# Altium schematic symbol library Schlib1.SchLib: 21 symbols
Pins are listed as number, name and electrical type; pins without a type are passive.

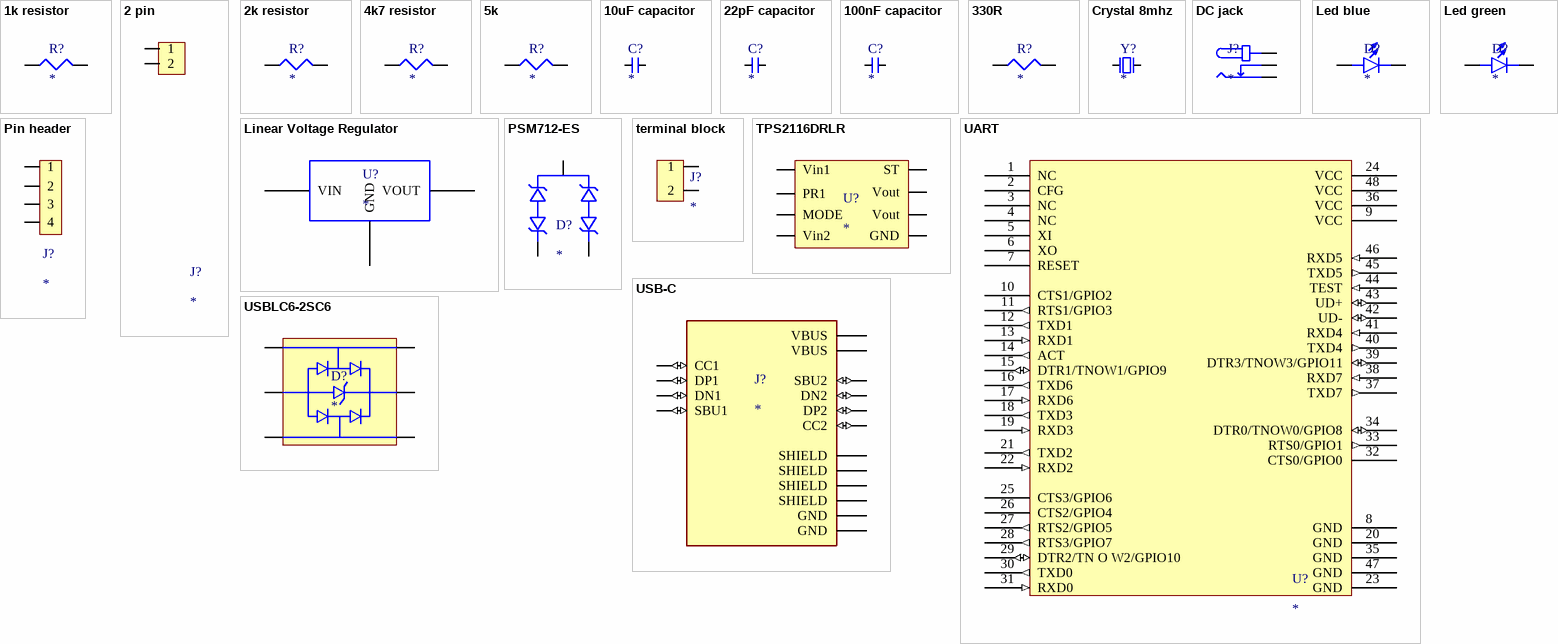
[diagram p0: symbols 1k resistor to USBLC6-2SC6]

## 1k resistor
designator R?
100mW Thick Film Resistors 75V ±100ppm/℃ ±1% 1kΩ 0603 Chip Resistor - Surface Mount ROHS; Manufacturer: UNI-ROYAL(Uniroyal Elec); Mfr. Part #: 0603WAF1001T5E; supplier: LCSC; LCSC Part #: C21190
footprint 0603 cap
pins: 1, 2

## 2 pin
designator J?
Straight Square Pins 2.5mm 6mm 2P -40℃~+105℃ 3mm 2.54mm Black Brass Plugin 1x2P Plugin,P=2.54mm Pin Headers ROHS; Manufacturer: XUNPU; Mfr. Part #: PH2.54-01-02PZD; supplier: LCSC; LCSC Part #: C7501580
footprint 2 pin header
pins: 1, 2

## 2k resistor
designator R?
100mW Thick Film Resistors 75V ±100ppm/℃ ±1% 2kΩ 0603 Chip Resistor - Surface Mount ROHS; Manufacturer: UNI-ROYAL(Uniroyal Elec); Mfr. Part #: 0603WAF2001T5E; supplier: LCSC; LCSC Part #: C22975
footprint 0603 cap
pins: 1, 2

## 4k7 resistor
designator R?
100mW Thick Film Resistors 75V ±100ppm/℃ ±5% 4.7kΩ 0603 Chip Resistor - Surface Mount ROHS; Manufacturer: UNI-ROYAL(Uniroyal Elec); Mfr. Part #: 0603WAJ0472T5E; supplier: LCSC; LCSC Part #: C25999
footprint 0603 cap
pins: 1, 2

## 5k
designator R?
100mW Thick Film Resistors 75V ±100ppm/℃ ±1% 330Ω 0603 Chip Resistor - Surface Mount ROHS; Manufacturer: UNI-ROYAL(Uniroyal Elec); Mfr. Part #: 0603WAF5101T5E; supplier: LCSC; LCSC Part #: C23186
footprint 0603 cap
pins: 1, 2

## 10uF capacitor
designator C?
6.3V 10uF ±10% 0603 Multilayer Ceramic Capacitors MLCC - SMD/SMT ROHS; Manufacturer: PSA(Prosperity Dielectrics); Mfr. Part #: FS18B106K6R3PBG; supplier: LCSC; LCSC Part #: C2836875
footprint 0603 cap
pins: 1, 2

## 22pF capacitor
designator C?
50V 22pF C0G ±5% 0603 Multilayer Ceramic Capacitors MLCC - SMD/SMT ROHS; Manufacturer: PSA(Prosperity Dielectrics); Mfr. Part #: FN18N220J500PSG; supplier: LCSC; LCSC Part #: C525244
footprint 0603 cap
pins: 1, 2

## 100nF capacitor
designator C?
50V 100nF X7R ±10% 0603 Multilayer Ceramic Capacitors MLCC - SMD/SMT ROHS; Manufacturer: PSA(Prosperity Dielectrics); Mfr. Part #: FN18X104K500PBG; supplier: LCSC; LCSC Part #: C235731
footprint 0603 cap
pins: 1, 2

## 330R
designator R?
100mW Thick Film Resistors 75V ±100ppm/℃ ±1% 330Ω 0603 Chip Resistor - Surface Mount ROHS; Manufacturer: UNI-ROYAL(Uniroyal Elec); Mfr. Part #: 0603WAF3300T5E; supplier: LCSC; LCSC Part #: C23138
footprint 0603 cap
pins: 1, 2

## Crystal 8mhz
designator Y?
8MHz 贴片晶振 20pF ±20ppm ±20ppm HC-49S-SMD Crystals ROHS; Manufacturer: KYX; Mfr. Part #: KBD080002020; supplier: LCSC; LCSC Part #: C2835983
footprint crystal
pins: 1, 2

## DC jack
designator J?
Panel Mounting DC Power Receptacle 260℃ Brass -20℃~+70℃ 2mm 6.2mm 2.5A 24V Plugin DC Power Connector ROHS; Manufacturer: XKB Connection; Mfr. Part #: DC-005-2.5A-2.0; Supplier: LCSC; LCSC Part #: C319099
footprint DC jack
pins: 1, 2, 3

## Led blue
designator D?
Blue 0603 Light Emitting Diodes (LED) ROHS; Manufacturer: Yongyu Photoelectric; Mfr. Part #: SZYY0805B; supplier: LCSC; LCSC Part #: C434433
footprint 0805led
pins: 1, 2

## Led green
designator D?
Emerald 0805 Light Emitting Diodes (LED) ROHS; Manufacturer: Yongyu Photoelectric; Mfr. Part #: SZYY0805G; supplier: LCSC; LCSC Part #: C434432
footprint 0805led
pins: 1, 2

## Linear Voltage Regulator
designator U?
SOT-223 Linear Voltage Regulators (LDO) ROHS; Manufacturer: IDCHIP; Manufacturer part number: 1117-5; Supplier: LCSC; Supplier part number: C5125089
footprint linear voltage regulato
pins: 1 GND, 2 VOUT, 3 VIN

## Pin header
designator J?
1x4P 4P XH 1 2.5mm 4 Phosphor bronze Plugin,P=2.5mm Wire To Board Connector ROHS; Manufacturer: BOOMELE; Mfr. Part #: XH-4A; Supplier: LCSC; LCSC Part #: C37815
footprint jst 4 pin
pins: 1, 2, 3, 4

## PSM712-ES
designator D?
17A 350W Bi-Directional SOT-23 Electrostatic and Surge Protection (TVS/ESD) ROHS; Manufacturer: ElecSuper; Mfr. Part #: PSM712-ES; Supplier: LCSC; LCSC Part #: C5180294
footprint sop23
pins: 1, 2, 3

## terminal block
designator J?
2 Bend 1 5.08mm 1x2P Green Board Edge/Receptacle-Open Push-Pull,P=5.08mm Pluggable System Terminal BlockS; Manufacturer: Ningbo Kangnex Elec; Mfr. Part #: WJ2EDGR-5.08-2P; supplier: LCSC; LCSC Part #: C8383
footprint rozzeta
pins: 1, 2

## TPS2116DRLR
designator U?
1.6V~5.5V 42mΩ 2.5A 1 SOT-583 Power Distribution Switches ROHS; Manufacturer: Texas Instruments; Mfr. Part #: TPS2116DRLR; supplier: LCSC; LCSC Part #: C3235557
footprint SOP8
pins: 1 GND, 2 Vout, 3 Vin1, 4 PR1, 5 MODE, 6 Vin2, 7 Vout, 8 ST

## UART
designator U?
LQFP-48(7x7) USB ICs ROHS; Manufacturer: WCH(Jiangsu Qin Heng); Manufacturer Part Number: CH348Q; Supplier: LCSC; Supplier Part Number: C2979161
footprint UART
pins: 1 NC, 2 CFG, 3 NC, 4 NC, 5 XI, 6 XO, 7 RESET, 8 GND (power), 9 VCC (power), 10 CTS1/GPIO2, 11 RTS1/GPIO3 (out), 12 TXD1 (out), 13 RXD1 (in), 14 ACT (out), 15 DTR1/TNOW1/GPIO9 (io), 16 TXD6 (out), 17 RXD6 (in), 18 TXD3 (out), 19 RXD3 (in), 20 GND (power), 21 TXD2 (out), 22 RXD2 (in), 23 GND (power), 24 VCC (power), 25 CTS3/GPIO6 , 26 CTS2/GPIO4, 27 RTS2/GPIO5 (out), 28 RTS3/GPIO7 (out), 29 DTR2/TN O W2/GPIO10 (io), 30 TXD0 (out), 31 RXD0 (in), 32 CTS0/GPIO0, 33 RTS0/GPIO1 (out), 34 DTR0/TNOW0/GPIO8 (io), 35 GND, 36 VCC (power), 37 TXD7 (out), 38 RXD7 (in), 39 DTR3/TNOW3/GPIO11 (io), 40 TXD4 (out), 41 RXD4 (in), 42 UD- (io), 43 UD+ (io), 44 TEST (in), 45 TXD5 (out), 46 RXD5 (in), 47 GND (power), 48 VCC (power)

## USB-C
designator J?
5A 1 16P Female Type-C SMD USB Connectors ROHS; Manufacturer: Korean Hroparts Elec; Mfr. Part #: TYPE-C-31-M-12; supplier: LCSC; LCSC Part #: C165948
footprint USB-C
pins: A1/B12 GND (power), A4/B9 VBUS (power), A5 CC1 (io), A6 DP1 (io), A7 DN1 (io), A8 SBU1 (io), B1/A12 GND (power), B4/A9 VBUS (power), B5 CC2 (io), B6 DP2 (io), B7 DN2 (io), B8 SBU2 (io), S1 SHIELD, S2 SHIELD, S3 SHIELD, S4 SHIELD

## USBLC6-2SC6
designator D?
5A 17V 6V Unidirectional 5.25V SOT-23-6 Electrostatic and Surge Protection (TVS/ESD) ROHS; Manufacturer: STMicroelectronics; Mfr. Part #: USBLC6-2SC6; supplier: LCSC; LCSC Part #: C7519
footprint SOP23-6l
pins: 1 I/O 1, 2 GND, 3 I/O 2, 4 I/O 2, 5 Vbus, 6 I/O 1